# Altium footprint library Packaging.PcbLib: 17 footprints (part 2 of 2)
Each footprint in its own frame and in the unit in brackets; x right, y up, seen from the top. Pads: shape width x height; smd on the part's side, far side on the other; paste and mask are expansions set on the pad; w line width, h text height; cw(c..) or ccw(c..) is an arc to the next point about the centre after c.
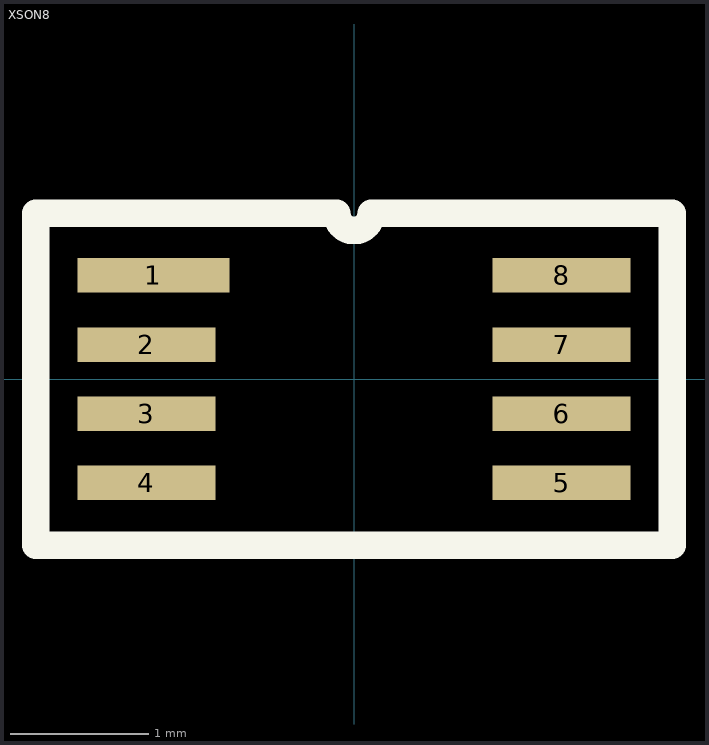
[diagram p1: the footprint, top view; thin cyan lines are the x and y axes]

## XSON8 [mm] "SOT996-2"
pads (8):
  rect 1.1x0.25 smd: 1(-1.45,0.75)
  rect 1x0.25 smd: 2(-1.5,0.25) 3(-1.5,-0.25) 4(-1.5,-0.75) 5(1.5,-0.75) 6(1.5,-0.25) 7(1.5,0.25) 8(1.5,0.75)
Top Overlay:
  lines w0.2: -2.3,-1.2 2.3,-1.2 2.3,1.2 0.125,1.2 cw(c0,1.2) -0.125,1.2 -2.3,1.2 -2.3,-1.2
3D body: height 0.5, standoff 0.1, extent -1.7,-1.2 1.7,1.2